# EAGLE library part THAT320 (library that-corp)
4-Matched PNP Transistors
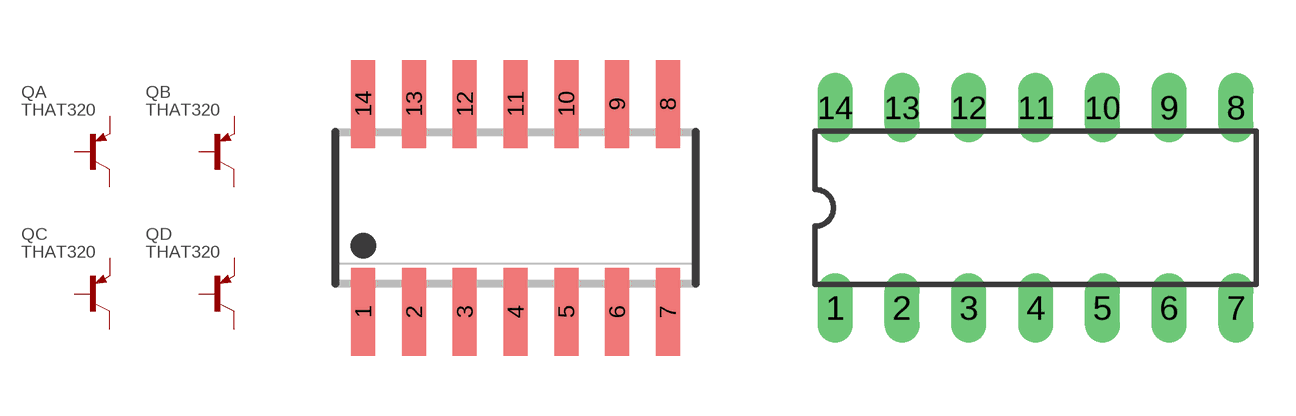
[diagram p9: symbol with the pads of SO14; footprints SO14, DIL14]

Designator prefix Q; gates A=PNP B=PNP C=PNP D=PNP

## THAT320S  [SO14]
1  A:C  pas
2  A:B  pas
3  A:E  pas
5  C:C  pas
6  C:B  pas
7  C:E  pas
8  D:C  pas
9  D:B  pas
10  D:E  pas
12  B:E  pas
13  B:B  pas
14  B:C  pas

## THAT320P  [DIL14]
Pads as for SO14

## Footprint SO14 (pad centres in mm)
SMALL OUTLINE INTEGRATED CIRCUIT body 3.9 mm/JEDEC MS-012AC
smd 0.6 x 2.2: 1 -3.81,-2.6; 2 -2.54,-2.6; 3 -1.27,-2.6; 4 0,-2.6; 5 1.27,-2.6; 6 2.54,-2.6; 7 3.81,-2.6; 8 3.81,2.6; 9 2.54,2.6; 10 1.27,2.6; 11 0,2.6; 12 -1.27,2.6; 13 -2.54,2.6; 14 -3.81,2.6

## Footprint DIL14 (pad centres in mm)
Dual In Line Package
drill 0.813 long: 1 -7.62,-3.81; 2 -5.08,-3.81; 3 -2.54,-3.81; 4 0,-3.81; 5 2.54,-3.81; 6 5.08,-3.81; 7 7.62,-3.81; 8 7.62,3.81; 9 5.08,3.81; 10 2.54,3.81; 11 0,3.81; 12 -2.54,3.81; 13 -5.08,3.81; 14 -7.62,3.81